# Altium footprint library CornellBajaLibrary.PcbLib: 100 footprints (part 3 of 7)
Each footprint in its own frame and in the unit in brackets; x right, y up, seen from the top. Pads: shape width x height; smd on the part's side, far side on the other; paste and mask are expansions set on the pad; w line width, h text height; cw(c..) or ccw(c..) is an arc to the next point about the centre after c.
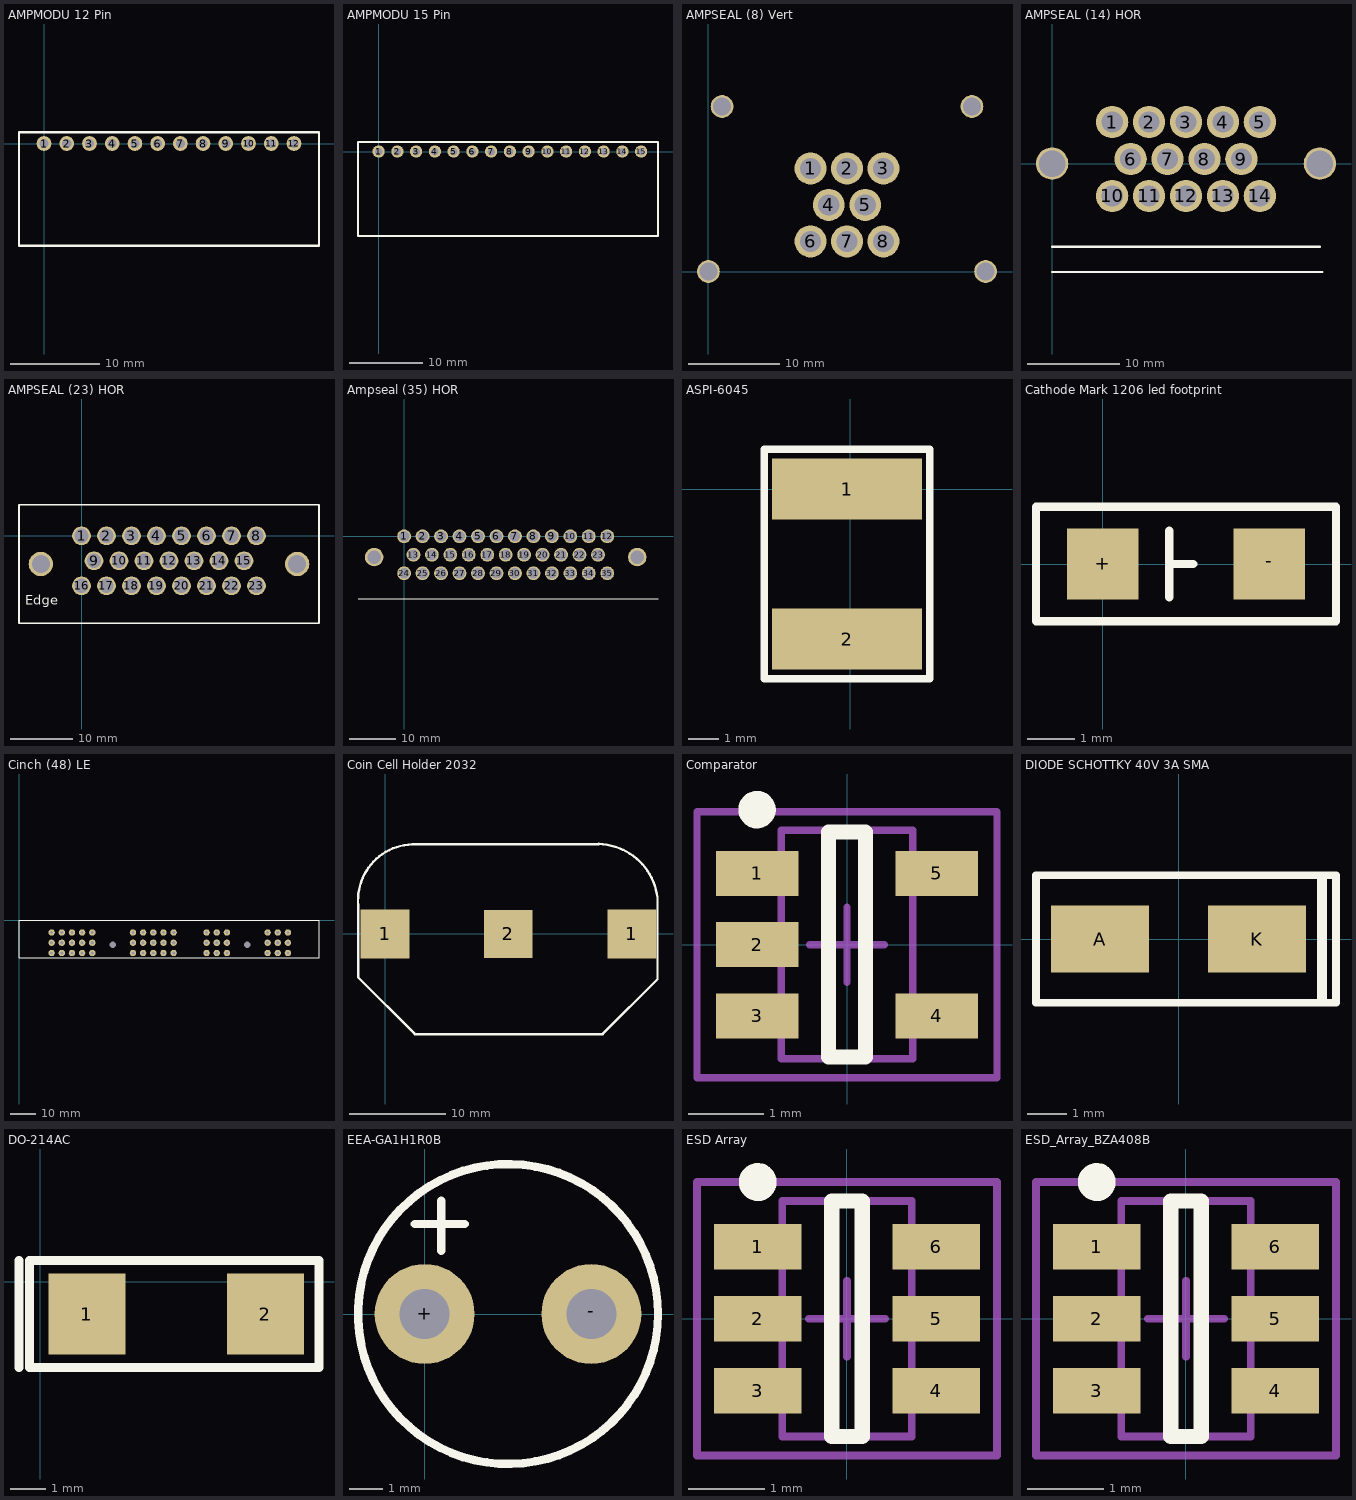
[diagram p2: the footprints below, top view; thin cyan lines are the x and y axes]

## AMPMODU 12 Pin [mil]
pads (12):
  round 65 hole 40: 1(0,0) 2(100,0) 3(200,0) 4(300,0) 5(400,0) 6(500,0) 7(600,0) 8(700,0) 9(800,0) 10(900,0) 11(1000,0) 12(1100,0)
Top Overlay:
  lines w9.84: -110,-450 -110,50 ; 1210,-450 1210,50
  lines w10: -110,-450 1210,-450 ; -110,50 1210,50

## AMPMODU 15 Pin [mil]
pads (15):
  round 65 hole 40: 1(0,0) 2(100,0) 3(200,0) 4(300,0) 5(400,0) 6(500,0) 7(600,0) 8(700,0) 9(800,0) 10(900,0) 11(1000,0) 12(1100,0) 13(1200,0) 14(1300,0) 15(1400,0)
Top Overlay:
  lines w9.84: -110,-450 -110,50 ; 1490,-450 1490,50
  lines w10: -110,-450 1490,-450 ; -110,50 1490,50

## AMPSEAL (8) Vert [mm]
pads (12):
  round 3.5 hole 2.32: 1(11.2,11.3) 2(15.2,11.3) 3(19.2,11.3) 4(13.2,7.3) 5(17.2,7.3) 6(11.2,3.3) 7(15.2,3.3) 8(19.2,3.3)
  round 2.5 hole 2: ""(0,0) ""(1.5,18.1) ""(28.9,18.1) ""(30.4,0)
3D body: height 34, standoff -4.05, extent -5.2,-8.8 35.6,23.3

## AMPSEAL (14) HOR [mm]
pads (16):
  round 3.5 hole 2.3: 1(6.5,4.5) 2(10.5,4.5) 3(14.5,4.5) 4(18.5,4.5) 5(22.5,4.5) 6(8.5,0.5) 7(12.5,0.5) 8(16.5,0.5) 9(20.5,0.5) 10(6.5,-3.5) 11(10.5,-3.5) 12(14.5,-3.5) 13(18.5,-3.5) 14(22.5,-3.5)
  round 3.5 hole 2.85: ""(0,0) ""(29,0)
Top Overlay:
  lines w0.254: 0,-11.75 29.25,-11.75 ; 0,-9 29,-9

## AMPSEAL (23) HOR [mm]
pads (25):
  round 3 hole 2.286: 1(0,0) 2(4,0) 3(8,0) 4(12,0) 5(16,0) 6(20,0) 7(24,0) 8(28,0) 9(2,-4) 10(6,-4) 11(10,-4) 12(14,-4) 13(18,-4) 14(22,-4) 15(26,-4) 16(0,-8) 17(4,-8) 18(8,-8) 19(12,-8) 20(16,-8) 21(20,-8) 22(24,-8) 23(28,-8)
  round 3.9 hole 2.85: ""(-6.5,-4.5) ""(34.5,-4.5)
Top Overlay:
  lines w0.254: -10,-14 38,-14 38,5 -10,5 -10,-14
  text "Edge" at -9,-11 h1.52

## Ampseal (35) HOR [mm]
pads (37):
  round 3 hole 2.3: 1(0,0) 2(4,0) 3(8,0) 4(12,0) 5(16,0) 6(20,0) 7(24,0) 8(28,0) 9(32,0) 10(36,0) 11(40,0) 12(44,0) 13(2,-4) 14(6,-4) 15(10,-4) 16(14,-4) 17(18,-4) 18(22,-4) 19(26,-4) 20(30,-4) 21(34,-4) 22(38,-4) 23(42,-4) 24(0,-8) 25(4,-8) 26(8,-8) 27(12,-8) 28(16,-8) 29(20,-8) 30(24,-8) 31(28,-8) 32(32,-8) 33(36,-8) 34(40,-8) 35(44,-8)
  round 4 hole 2.9: ""(-6.5,-4.5) ""(50.5,-4.5)
Top Overlay:
  lines w0.254: -10,-13.5 50.5,-13.5 55,-13.5

## ASPI-6045 [mm]
pads (2):
  rect 4.9x2 smd: 1(-0.1,0) 2(-0.1,-4.9)
Top Overlay:
  lines w0.25: -2.8,-6.2 2.6,-6.2 2.6,1.3 -2.8,1.3 -2.8,-6.2
3D body: height 4.5, standoff 0, extent -2.5,-5.5 2.3,0.5

## Cathode Mark 1206 led footprint [mm] "OSRAM semiconductor"
height 1.2
pads (2):
  rect 1.5x1.5 smd: +(0,0) -(3.5,0)
Top Overlay:
  lines w0.178: 1.4,-0.7 1.4,0.7 ; 1.4,0 1.9,0 ; -1.4,-1.2 4.9,-1.2 4.9,1.2 -1.4,1.2 -1.4,-1.2
3D body: height 1, standoff 0, extent 0,-0.7 3.6,0.7

## Cinch (48) LE [mm]
pads (50):
  round 2.5 hole 1.27: 1(12.7,-4.83) 2(16.66,-4.83) 3(20.62,-4.83) 4(24.58,-4.83) 5(28.54,-4.83) 6(44.38,-4.83) 7(48.34,-4.83) 8(52.3,-4.83) 9(56.26,-4.83) 10(60.22,-4.83) 11(12.7,-8.82) 12(16.66,-8.82) 13(20.62,-8.82) 14(24.58,-8.82) 15(28.54,-8.82) 16(44.38,-8.82) 17(48.34,-8.82) 18(52.3,-8.82) 19(56.26,-8.82) 20(60.22,-8.82) 21(12.7,-12.81) 22(16.66,-12.81) 23(20.62,-12.81) 24(24.58,-12.81) 25(28.54,-12.81) 26(44.38,-12.81) 27(48.34,-12.81) 28(52.3,-12.81) 29(56.26,-12.81) 30(60.22,-12.81) 31(73.06,-4.83) 32(77.02,-4.83) 33(80.98,-4.83) 34(96.82,-4.83) 35(100.78,-4.83) 36(104.74,-4.83) 37(73.06,-8.82) 38(77.02,-8.82) 39(80.98,-8.82) 40(96.82,-8.82) 41(100.78,-8.82) 42(104.74,-8.82) 43(73.06,-12.81) 44(77.02,-12.81) 45(80.98,-12.81) 46(96.82,-12.81) 47(100.78,-12.81) 48(104.74,-12.81)
  round 0 hole 2.54: ""(36.46,-9.53) ""(88.9,-9.53)
Top Overlay:
  lines w0.254: 0,-14.71 0,0 116.84,0 116.84,-14.71 0,-14.71

## Coin Cell Holder 2032 [mm]
height 4
pads (3):
  rect 5.08x5.08 smd: 1(0,0) 1(25.65,0)
  rect 5x5 smd: 2(12.8,0)
Top Overlay:
  lines w0.254: -2.8,3.001 -2.8,-2.7 -2.8,-4.4 -2.8,-4.5 3.1,-10.4 22.6,-10.4 28.3,-4.7 28.3,3.8 ccw(c22,3) 22.202,9.347 ; -2.786,3.001 cw(c3,3.5) 2.8,9.304 ; 2.8,9.3 22.202,9.3

## Comparator [mm] "TL331KDBVR"
height 1.45
pads (5):
  rect 1.1x0.6 smd: 1(-1.2,0.95) 2(-1.2,0) 3(-1.2,-0.95) 4(1.2,-0.95) 5(1.2,0.95)
Top Overlay:
  circle w0.25: c-1.2,1.8 r0.125
  lines w0.2: -0.25,-1.5 -0.25,1.5 0.25,1.5 0.25,-1.5 -0.25,-1.5
Mechanical 13:
  lines w0.1: -0.875,-1.525 0.875,-1.525 0.875,1.525 -0.875,1.525 -0.875,-1.525
Mechanical 15:
  lines w0.1: -0.5,0 0.5,0 ; 0,-0.5 0,0.5 ; -2,-1.775 2,-1.775 2,1.775 -2,1.775 -2,-1.775
3D body: height 1.45, standoff 0.15, extent -0.875,-1.525 0.875,1.525

## DIODE SCHOTTKY 40V 3A SMA [mm] "DIODE SCHOTTKY 40V 3A SMA"
height 3
pads (2):
  rect 2.5x1.7 smd: A(-2,0) K(2,0)
Top Overlay:
  lines w0.2: -3.632,-1.626 -3.632,1.626 4.013,1.626 4.013,-1.626 -3.632,-1.626
  lines w0.25: 3.658,-1.499 3.658,1.575

## DO-214AC [mm]
pads (2):
  rect 2.16x2.26 smd: 1(1.3,-0.9) 2(6.3,-0.9)
Top Overlay:
  lines w0.25: -0.6,-2.4 -0.6,0.6 ; -0.3,-2.4 1.825,-2.4 5.475,-2.4 7.8,-2.4 7.8,0.6 -0.3,0.6 -0.3,-2.4

## EEA-GA1H1R0B [mm] "1uF Electrolytic Through Hole"
height 7
pads (2):
  round 3 hole 1.5: +(0,0) -(5,0)
Top Overlay:
  circle w0.254: c2.5,0 r4.5
  lines w0.254: -0.3,2.7 1.2,2.7 ; 0.5,1.9 0.5,3.4

## ESD Array [mm] "BZA408B"
height 1.1
pads (6):
  rect 1.15x0.6 smd: 1(-1.175,0.95) 2(-1.175,0) 3(-1.175,-0.95) 4(1.175,-0.95) 5(1.175,0) 6(1.175,0.95)
Top Overlay:
  circle w0.25: c-1.175,1.8 r0.125
  lines w0.2: -0.2,-1.55 0.2,-1.55 0.2,1.55 -0.2,1.55 -0.2,-1.55
Mechanical 13:
  lines w0.1: -0.85,-1.55 -0.85,1.55 0.85,1.55 0.85,-1.55 -0.85,-1.55
Mechanical 15:
  lines w0.1: -0.5,0 0.5,0 ; 0,-0.5 0,0.5 ; -1.975,-1.8 -1.975,1.8 1.975,1.8 1.975,-1.8 -1.975,-1.8
3D body: height 1.1, standoff 0.01, extent -0.85,-1.55 0.85,1.55

## ESD_Array_BZA408B [mm] "SOT23, 6-Leads, Body 3.1x3.0mm (max), Pitch 0.95mm, IPC Medium Density"
height 1.1
pads (6):
  rect 1.15x0.6 smd: 1(-1.175,0.95) 2(-1.175,0) 3(-1.175,-0.95) 4(1.175,-0.95) 5(1.175,0) 6(1.175,0.95)
Top Overlay:
  circle w0.25: c-1.175,1.8 r0.125
  lines w0.2: -0.2,-1.55 -0.2,1.55 0.2,1.55 0.2,-1.55 -0.2,-1.55
Mechanical 13:
  lines w0.1: -0.85,-1.55 0.85,-1.55 0.85,1.55 -0.85,1.55 -0.85,-1.55
Mechanical 15:
  lines w0.1: -0.5,0 0.5,0 ; 0,-0.5 0,0.5 ; -1.975,-1.8 1.975,-1.8 1.975,1.8 -1.975,1.8 -1.975,-1.8
3D body: height 1.1, standoff 0.01, extent -0.85,-1.55 0.85,1.55